# Altium integrated library DMN1019USN-7.IntLib: 1 symbol
Pins are listed as number, name and electrical type; pins without a type are passive.

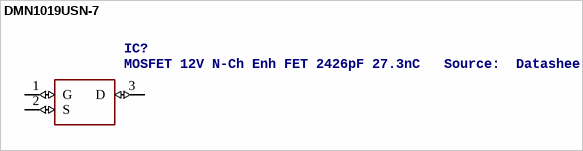
[diagram p0: symbol DMN1019USN-7]

## DMN1019USN-7
designator IC?, comment MOSFET 12V N-Ch Enh FET 2426pF 27.3nC   Source:  Datasheet
Manufacturer_Name: Diodes Inc.; Manufacturer_Part_Number: DMN1019USN-7; RS_Part_Number: 1658326; RS_Price-Stock: http://uk.rs-online.com/web/p/products/1658326; Mouser_Part_Number: 621-DMN1019USN-7; Mouser_Price-Stock: https://www.mouser.com/Search/Refine.aspx?Keyword=621-DMN1019USN-7; Description: MOSFET 12V N-Ch Enh FET 2426pF 27.3nC; Height: 1.3mm
footprint SOT95P285X130-3N
pins: 1 G (io), 2 S (io), 3 D (io)